# EAGLE library part LOLIN-D1-MINI-PRO (library ts_dev_boards)
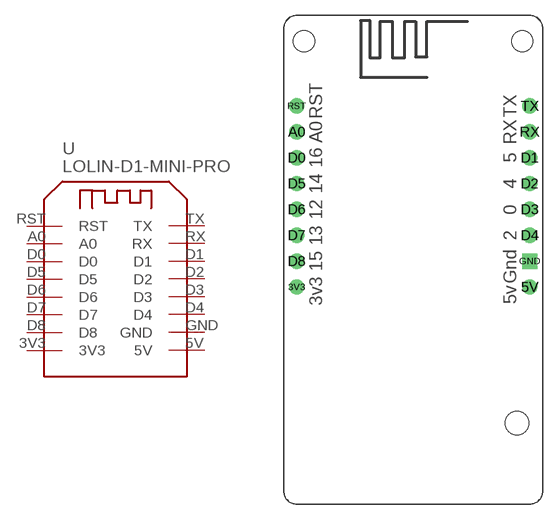
[diagram p6: symbol with the pads of WEMOS-D1-MINI-PRO; footprint WEMOS-D1-MINI-PRO]

Designator prefix -

## LOLIN-D1-MINI-PRO  [WEMOS-D1-MINI-PRO]
3V3  3V3  pwr
5V  5V  pwr
A0  A0
D0  D0
D1  D1
D2  D2
D3  D3
D4  D4
D5  D5
D6  D6
D7  D7
D8  D8
GND  GND  pwr
RST  RST
RX  RX
TX  TX

## Footprint WEMOS-D1-MINI-PRO (pad centres in mm)
WEMOS D1 mini: Mini Wi-Fi Board based on ESP-8266 device
drill 1: 3V3 -11.43,-2.8; 5V 11.43,-2.8; A0 -11.43,12.44; D0 -11.43,9.9; D1 11.43,9.9; D2 11.43,7.36; D3 11.43,4.82; D4 11.43,2.28; D5 -11.43,7.36; D6 -11.43,4.82; D7 -11.43,2.28; D8 -11.43,-0.26; RST -11.43,14.98; RX 11.43,12.44; TX 11.43,14.98
drill 1 square: GND 11.43,-0.26
hole 2.1 at -10.7,21.34
hole 2.1 at 10.7,21.34
hole 2.3 at 10.2,-16.16